# Altium integrated library rf-micro-devices.IntLib: 2 symbols
Pins are listed as number, name and electrical type; pins without a type are passive.

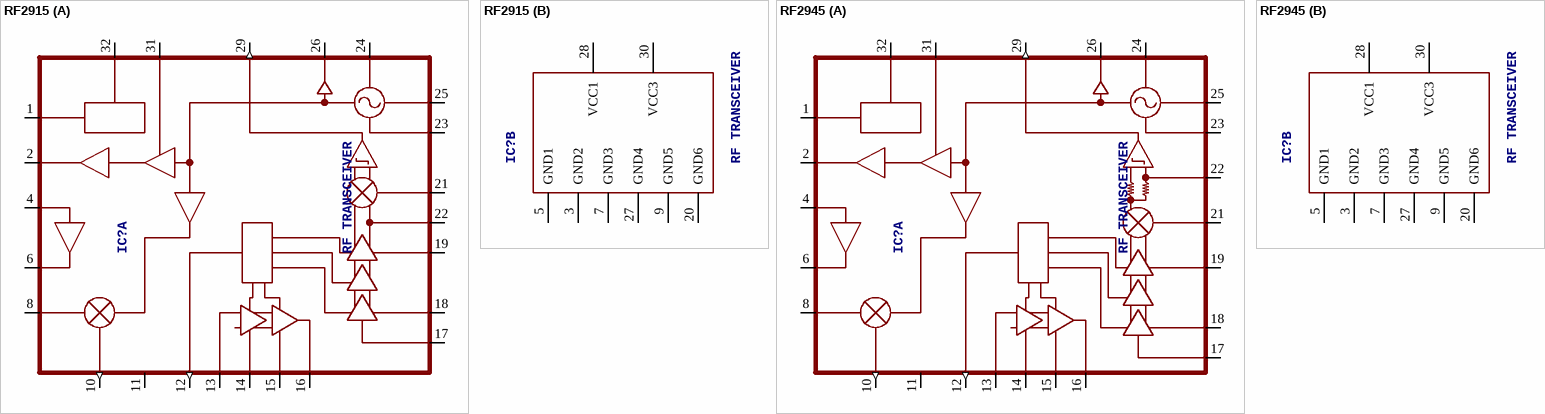
[diagram p0: symbols RF2915 to RF2945]

## RF2915
designator IC?, comment RF TRANSCEIVER
OC_FARNELL: unknown; OC_NEWARK: unknown
footprint LQFP-32
part A pins: 1 TX_EN, 2 TX_OUT, 4 RX_IN, 6 LNA_OUT (oc), 8 MIX_IN, 10 MIX_OUT (out), 11 VBG, 12 RSSI (out), 13 IF1_IN, 14 CBPI+, 15 CBP1-, 16 IF1_OUT, 17 IF2_IN, 18 CBP2+, 19 CBP2-, 21 DEMOD_IN, 22 IF2_OUT, 23 MOD_IN, 24 RESNTR+, 25 RESNTR-, 26 VCD_OUT, 29 DATA_OUT (out), 31 LVLADJ, 32 RX_EN
part B pins: 3 GND2, 5 GND1, 7 GND3, 9 GND5, 20 GND6, 27 GND4, 28 VCC1, 30 VCC3

## RF2945
designator IC?, comment RF TRANSCEIVER
OC_FARNELL: unknown; OC_NEWARK: unknown
footprint LQFP-32
part A pins: 1 TX_EN, 2 TX_OUT, 4 RX_IN, 6 LNA_OUT (oc), 8 MIX_IN, 10 MIX_OUT (out), 11 VBG, 12 RSSI (out), 13 IF1_IN, 14 CBPI+, 15 CBP1-, 16 IF1_OUT, 17 IF2_IN, 18 CBP2+, 19 CBP2-, 21 DEMOD_IN, 22 DATA_REF, 23 MOD_IN, 24 RESNTR+, 25 RESNTR-, 26 VCD_OUT, 29 DATA_OUT (out), 31 LVLADJ, 32 RX_EN
part B pins: 3 GND2, 5 GND1, 7 GND3, 9 GND5, 20 GND6, 27 GND4, 28 VCC1, 30 VCC3